# Altium footprint library MELF2.PcbLib: 1 footprints
Each footprint in its own frame and in the unit in brackets; x right, y up, seen from the top. Pads: shape width x height; smd on the part's side, far side on the other; paste and mask are expansions set on the pad; w line width, h text height; cw(c..) or ccw(c..) is an arc to the next point about the centre after c.
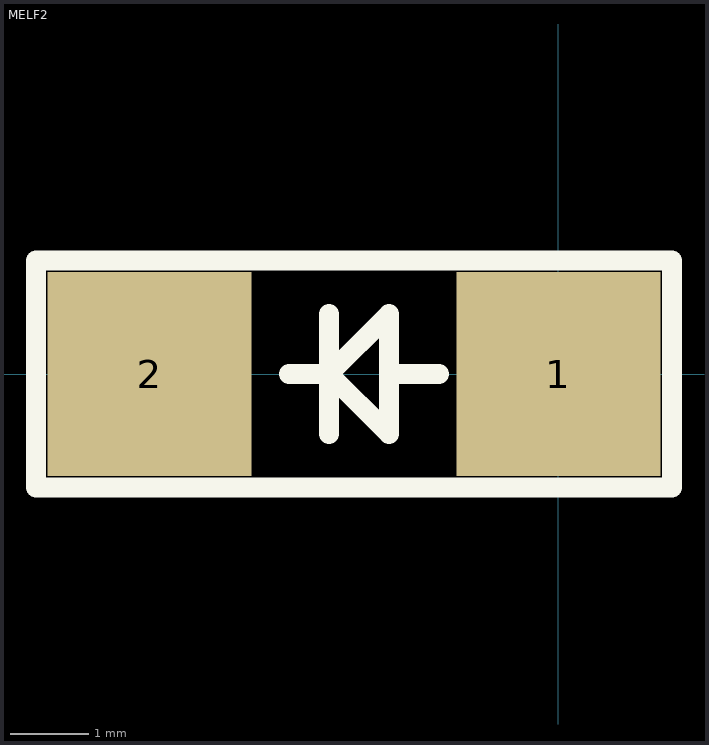
[diagram p0: the footprint, top view; thin cyan lines are the x and y axes]

## MELF2 [mm]
height 1.778
pads (2):
  rect 2.6x2.6 smd: 1(0,0) 2(-5.207,0)
TopOverlay:
  lines w0.254: -3.429,0 -2.921,0 ; -2.921,-0.762 -2.921,0 ; -2.921,0.762 -2.921,0 ; -1.524,0 -2.159,0 ; -2.921,0 -2.159,0.762 -2.159,0 ; -2.921,0 -2.159,-0.762 -2.159,0 ; -6.655,-1.448 1.448,-1.448 1.448,1.448 -6.655,1.448 -6.655,-1.448
Mechanical4:
  text ".1" at -3.15,-0.711 h0.03
3D body: height 2.5, standoff 0, extent -5.166,-1.31 -0.166,1.19